# EAGLE library part HEADER-20P (library Connector)
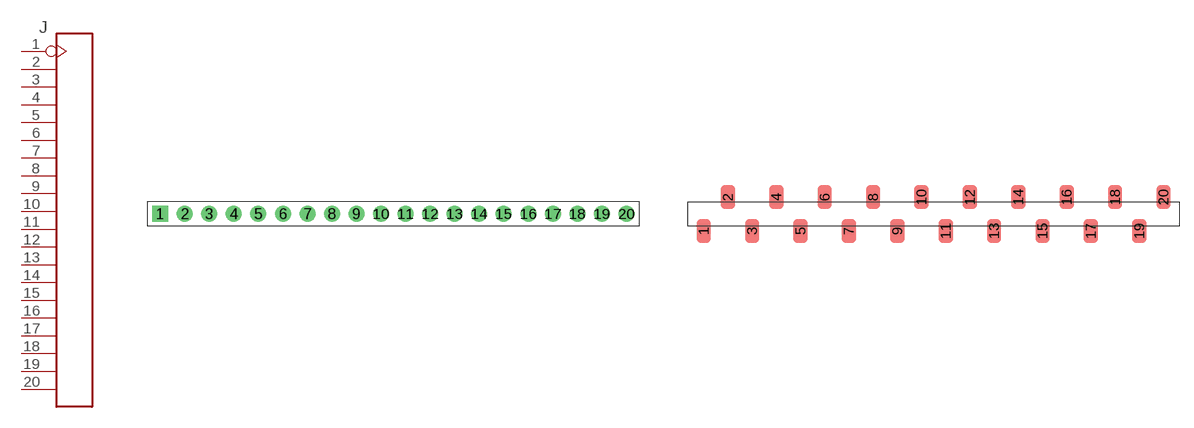
[diagram p10: symbol with the pads of 20P-2.54; footprints 20P-2.54, 20P-SMD-2.54]

Designator prefix J

## HEADER-20P-2.54  [20P-2.54]
1  P$1
2  P$2
3  P$3
4  P$4
5  P$5
6  P$6
7  P$7
8  P$8
9  P$9
10  P$10
11  P$11
12  P$12
13  P$13
14  P$14
15  P$15
16  P$16
17  P$17
18  P$18
19  P$19
20  P$20

## HEADER-20P-2.54-SMD  [20P-SMD-2.54]
Pads as for 20P-2.54

## Footprint 20P-2.54 (pad centres in mm)
drill 0.889 pad 1.651 square: 1 -25.4,0
drill 0.889 pad 1.651: 2 -22.86,0; 3 -20.32,0; 4 -17.78,0; 5 -15.24,0; 6 -12.7,0; 7 -10.16,0; 8 -7.62,0; 9 -5.08,0; 10 -2.54,0; 11 0,0; 12 2.54,0; 13 5.08,0; 14 7.62,0; 15 10.16,0; 16 12.7,0; 17 15.24,0; 18 17.78,0; 19 20.32,0; 20 22.86,0

## Footprint 20P-SMD-2.54 (pad centres in mm)
smd 1.524 x 2.54: 1 -24.13,-1.778; 2 -21.59,1.778; 3 -19.05,-1.778; 4 -16.51,1.778; 5 -13.97,-1.778; 6 -11.43,1.778; 7 -8.89,-1.778; 8 -6.35,1.778; 9 -3.81,-1.778; 10 -1.27,1.778; 11 1.27,-1.778; 12 3.81,1.778; 13 6.35,-1.778; 14 8.89,1.778; 15 11.43,-1.778; 16 13.97,1.778; 17 16.51,-1.778; 18 19.05,1.778; 19 21.59,-1.778; 20 24.13,1.778